# Altium schematic symbol library Quad.SchLib: 3 symbols
Pins are listed as number, name and electrical type; pins without a type are passive.

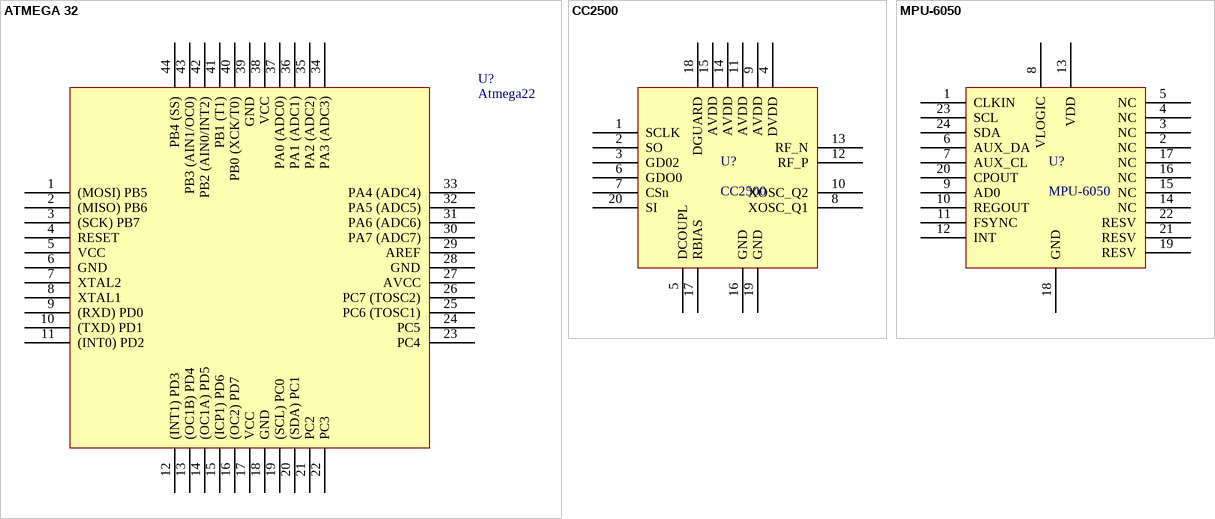
[diagram p0: symbols ATMEGA 32 to MPU-6050]

## ATMEGA 32
designator U?, comment Atmega22
IC MCU 8BIT 8KB FLASH 44TQFP
footprint Quad44
pins: 1 (MOSI) PB5, 2 (MISO) PB6, 3 (SCK) PB7, 4 RESET, 5 VCC, 6 GND, 7 XTAL2, 8 XTAL1, 9 (RXD) PD0, 10 (TXD) PD1, 11 (INT0) PD2, 12 (INT1) PD3, 13 (OC1B) PD4, 14 (OC1A) PD5, 15 (ICP1) PD6, 16 (OC2) PD7, 17 VCC, 18 GND, 19 (SCL) PC0, 20 (SDA) PC1, 21 PC2, 22 PC3, 23 PC4, 24 PC5, 25 PC6 (TOSC1), 26 PC7 (TOSC2), 27 AVCC, 28 GND, 29 AREF, 30 PA7 (ADC7), 31 PA6 (ADC6), 32 PA5 (ADC5), 33 PA4 (ADC4), 34 PA3 (ADC3), 35 PA2 (ADC2), 36 PA1 (ADC1), 37 PA0 (ADC0), 38 VCC, 39 GND, 40 PB0 (XCK/T0), 41 PB1 (T1), 42 PB2 (AIN0/INT2), 43 PB3 (AIN1/OC0), 44 PB4 (SS)

## CC2500
designator U?
Low-Cost Low-Power 2.4 GHz RF Transceiver
footprint RGP (S-PVQFN-N20)
pins: 1 SCLK, 2 SO, 3 GD02, 4 DVDD, 5 DCOUPL, 6 GDO0, 7 CSn, 8 XOSC_Q1, 9 AVDD, 10 XOSC_Q2, 11 AVDD, 12 RF_P, 13 RF_N, 14 AVDD, 15 AVDD, 16 GND, 17 RBIAS, 18 DGUARD, 19 GND, 20 SI

## MPU-6050
designator U?
GYRO/ACCELEROMETER 6AXIS 24QFN
footprint QFN24
pins: 1 CLKIN, 2 NC, 3 NC, 4 NC, 5 NC, 6 AUX_DA, 7 AUX_CL, 8 VLOGIC, 9 AD0, 10 REGOUT, 11 FSYNC, 12 INT, 13 VDD, 14 NC, 15 NC, 16 NC, 17 NC, 18 GND, 19 RESV, 20 CPOUT, 21 RESV, 22 RESV, 23 SCL, 24 SDA